# Altium schematic symbol library TVS_UNI.SchLib: 1 symbol
Pins are listed as number, name and electrical type; pins without a type are passive.

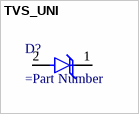
[diagram p0: symbol TVS_UNI]

## TVS_UNI
designator D?
=Description
pins: 1, 2